# Altium footprint library ndhop-altium.PcbLib: 4 footprints
Each footprint in its own frame and in the unit in brackets; x right, y up, seen from the top. Pads: shape width x height; smd on the part's side, far side on the other; paste and mask are expansions set on the pad; w line width, h text height; cw(c..) or ccw(c..) is an arc to the next point about the centre after c.
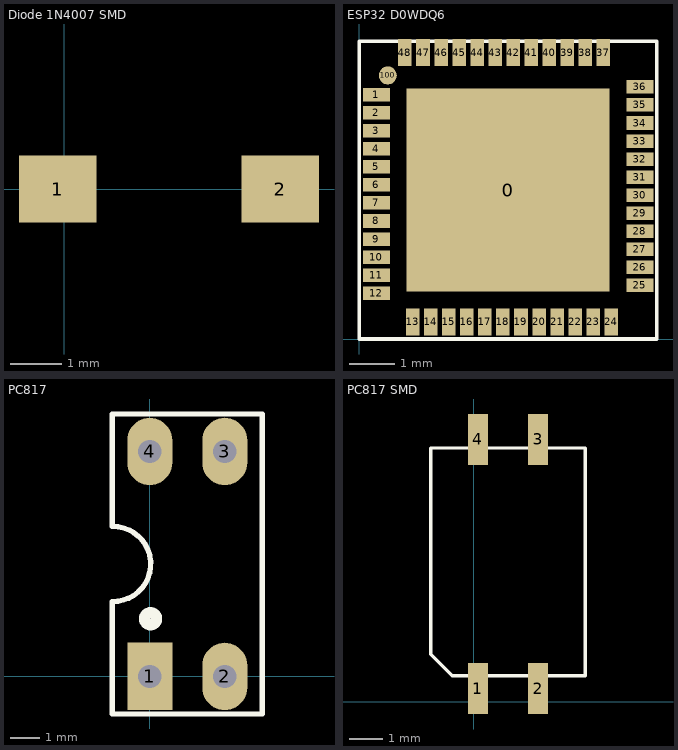
[diagram p0: the footprints below, top view; thin cyan lines are the x and y axes]

## Diode 1N4007 SMD [mm] "Diode 1N4007 SMD"
pads (2):
  rect 1.5x1.3 smd: 1(-0.127,0) 2(4.191,0)
Mechanical 1:
3D body "M7 Diode.step": height 2.21, standoff -0.2, extent -0.618,-1.4 4.682,1.4

## ESP32 D0WDQ6 [mm] "ESP32 D0WDQ6"
pads (50):
  rect 4.5x4.5 smd mask+0: 0(3.302,3.302)
  rect 0.6x0.3 smd mask+0: 1(0.381,5.416) 2(0.381,5.016) 3(0.381,4.616) 4(0.381,4.216) 5(0.381,3.816) 6(0.381,3.416) 7(0.381,3.016) 8(0.381,2.616) 9(0.381,2.216) 10(0.381,1.816) 11(0.381,1.416) 12(0.381,1.016) 25(6.223,1.188) 26(6.223,1.588) 27(6.223,1.988) 28(6.223,2.388) 29(6.223,2.788) 30(6.223,3.188) 31(6.223,3.588) 32(6.223,3.988) 33(6.223,4.388) 34(6.223,4.788) 35(6.223,5.188) 36(6.223,5.588)
  rect 0.3x0.6 smd mask+0: 13(1.188,0.381) 14(1.588,0.381) 15(1.988,0.381) 16(2.388,0.381) 17(2.788,0.381) 18(3.188,0.381) 19(3.588,0.381) 20(3.988,0.381) 21(4.388,0.381) 22(4.788,0.381) 23(5.188,0.381) 24(5.588,0.381) 37(5.416,6.35) 38(5.016,6.35) 39(4.616,6.35) 40(4.216,6.35) 41(3.816,6.35) 42(3.416,6.35) 43(3.016,6.35) 44(2.616,6.35) 45(2.216,6.35) 46(1.816,6.35) 47(1.416,6.35) 48(1.016,6.35)
  round 0.4 smd mask+0: 100(0.635,5.842)
Top Overlay:
  lines w0.08: 0,0 6.6,0 6.6,6.6 0,6.6 0,0
3D body "ESP32-D0WDQ6-V3_EXP.step": height 0.89, standoff 0, extent 0.279,0.279 6.325,6.325

## PC817 [mil]
height 100
pads (4):
  rect 60x90 hole 31: 1(0,0)
  oval 60x90 hole 31: 2(100,0) 3(100,300) 4(0,300)
Top Overlay:
  circle w15: c1,77 r8
  lines w7: -50.38,100.05 ccw(c-48.69,150.02) -50,200 ; -50,100 -50,-50 150,-50 150,350 -50,350 -50,201
3D body "SW3DPS-DIP4-DEFAULT.STEP": height 169.69, standoff -129.13, extent -59.06,-10 159.06,304.96

## PC817 SMD [mm]
pads (4):
  rect 0.6x1.5 smd: 1(0.127,0.381) 2(1.905,0.381) 3(1.905,7.747) 4(0.127,7.747)
Top Overlay:
  lines w0.1: -1.27,1.397 -1.27,7.493 3.302,7.493 3.302,0.762 -0.254,0.762 -0.635,0.762 -1.27,1.397
3D body "DIP4 Gullwing.STEP": height 1.8, standoff -1.8, extent -1.27,-0.71 3.33,8.89